# Altium schematic symbol library HC05_Bluetooth_SCHEMATIC.SchLib: 1 symbol
Pins are listed as number, name and electrical type; pins without a type are passive.

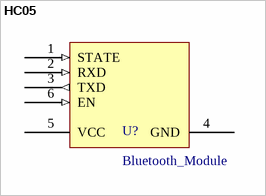
[diagram p0: symbol HC05]

## HC05
designator U?, comment Bluetooth_Module
HC05 Bluetooth RF Grove Platform Evaluation Expansion Board; Manufacturer: Seeed Technology Co., Ltd; Utilized IC / Part: HC-05; Type: RF; Function: Bluetooth; ComponentLink1Description: Datasheet; ComponentLink1URL: https://raw.githubusercontent.com/SeeedDocument/Grove-Serial_Bluetooth_v3.0/master/res/Bluetooth_module.pdf
footprint PCBComponent_1
pins: 1 STATE (in), 2 RXD (in), 3 TXD (out), 4 GND, 5 VCC, 6 EN (in)